# EAGLE library part ADRF6510 (library mr_radar)
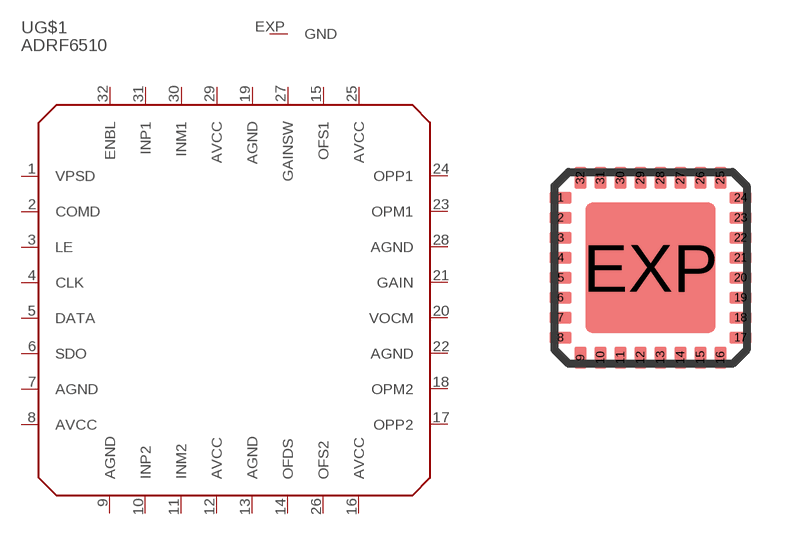
[diagram p4: symbol with the pads of LFCSP32; footprint LFCSP32]

Designator prefix -; gates G$1=ADRF6510 G$2=GND

## ADRF6510  [LFCSP32]
1  G$1:VPSD  in
2  G$1:COMD  in
3  G$1:LE  in
4  G$1:CLK
5  G$1:DATA
6  G$1:SDO
7  G$1:AGND
8  G$1:AVCC
9  G$1:AGND
10  G$1:INP2
11  G$1:INM2
12  G$1:AVCC
13  G$1:AGND
14  G$1:OFDS
15  G$1:OFS1
16  G$1:AVCC
17  G$1:OPP2
18  G$1:OPM2
19  G$1:AGND
20  G$1:VOCM
21  G$1:GAIN
22  G$1:AGND
23  G$1:OPM1
24  G$1:OPP1
25  G$1:AVCC
26  G$1:OFS2
27  G$1:GAINSW
28  G$1:AGND
29  G$1:AVCC
30  G$1:INM1
31  G$1:INP1
32  G$1:ENBL
EXP  G$2:GND  pwr

## Footprint LFCSP32 (pad centres in mm)
32-Lead Frame Chip Scale Package [LFCSP_VQ] 5 mm × 5 mm Very Thin Quad (CP-32-3 COMPLIANT TO JEDEC STANDARDS MO-220-VHHD-2 Source: http://www.analog.com/UploadedFiles/Data_Sheets/762180021AD7142_42_1_prd.pdf
smd 0.55 x 0.3: 1 -2.25,1.75; 2 -2.25,1.25; 3 -2.25,0.75; 4 -2.25,0.25; 5 -2.25,-0.25; 6 -2.25,-0.75; 7 -2.25,-1.25; 8 -2.25,-1.75; 17 2.25,-1.75; 18 2.25,-1.25; 19 2.25,-0.75; 20 2.25,-0.25; 21 2.25,0.25; 22 2.25,0.75; 23 2.25,1.25; 24 2.25,1.75
smd 0.3 x 0.55: 9 -1.75,-2.25; 10 -1.25,-2.25; 11 -0.75,-2.25; 12 -0.25,-2.25; 13 0.25,-2.25; 14 0.75,-2.25; 15 1.25,-2.25; 16 1.75,-2.25; 25 1.75,2.25; 26 1.25,2.25; 27 0.75,2.25; 28 0.25,2.25; 29 -0.25,2.25; 30 -0.75,2.25; 31 -1.25,2.25; 32 -1.75,2.25
smd 3.25 x 3.25: EXP 0,0